# EAGLE library part TPS3106 (library camillo_parts)
TPS3106 - ULTRALOW SUPPLY-CURRENT/SUPPLY-VOLTAGE SUPERVISORY CIRCUIT
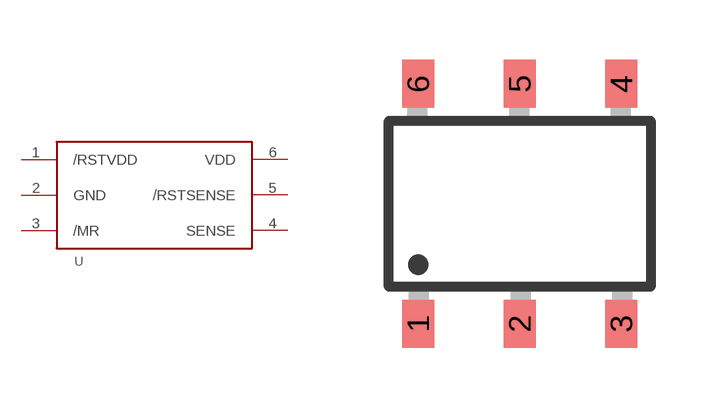
[diagram p0: symbol with the pads of SOP06; footprint SOP06]

Designator prefix -

## TPS3106  [SOP06]
1  /RSTVDD  oc
2  GND  pwr
3  /MR  in
4  SENSE  in
5  /RSTSENSE  oc
6  VDD  pwr

## Footprint SOP06 (pad centres in mm)
SOP6 - Plastic Small Outline (DBV) - 6 leads
smd 0.8 x 1.2: 1 -2.54,-3; 2 0,-3; 3 2.54,-3; 4 2.54,3; 5 0,3; 6 -2.54,3